# Altium footprint library Modules.PcbLib: 5 footprints
Each footprint in its own frame and in the unit in brackets; x right, y up, seen from the top. Pads: shape width x height; smd on the part's side, far side on the other; paste and mask are expansions set on the pad; w line width, h text height; cw(c..) or ccw(c..) is an arc to the next point about the centre after c.
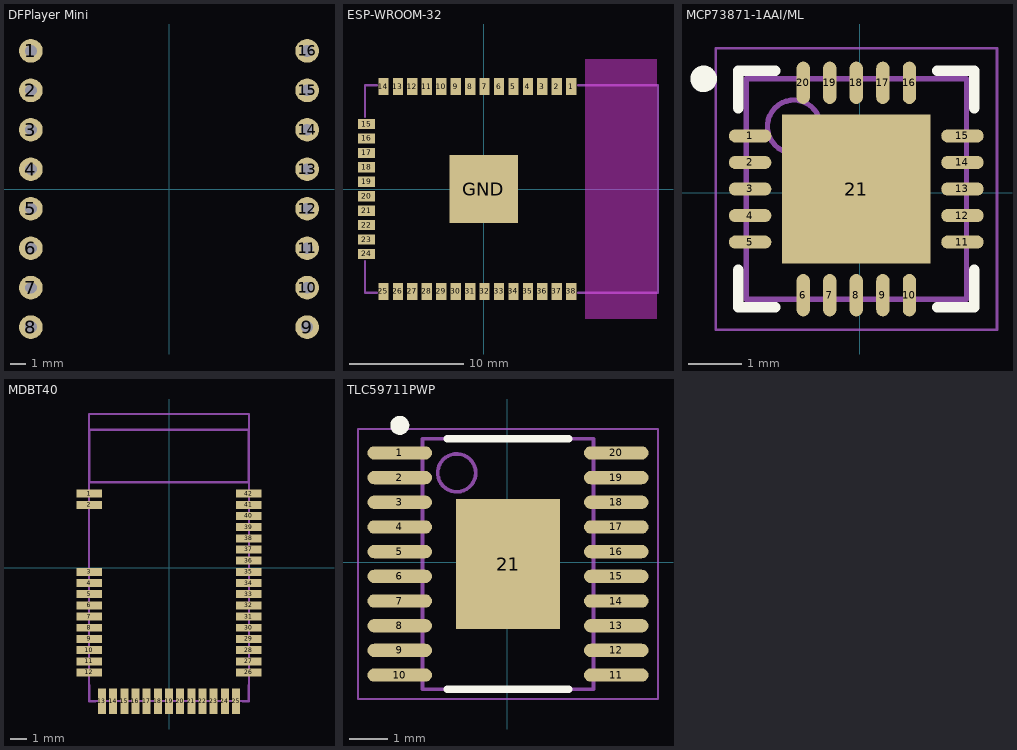
[diagram p0: the footprints below, top view; thin cyan lines are the x and y axes]

## DFPlayer Mini [mil]
pads (16):
  round 60 hole 30: 1(-350,350) 2(-350,250) 3(-350,150) 4(-350,50) 5(-350,-50) 6(-350,-150) 7(-350,-250) 8(-350,-350) 9(350,-350) 10(350,-250) 11(350,-150) 12(350,-50) 13(350,50) 14(350,150) 15(350,250) 16(350,350)
3D body: height 234.25, standoff -212.6, extent -401.96,-507.08 401.98,406.7

## ESP-WROOM-32 [mm]
pads (39):
  rect 0.9x1.5 smd: 1(7.7,9) 2(6.43,9) 3(5.16,9) 4(3.89,9) 5(2.62,9) 6(1.35,9) 7(0.08,9) 8(-1.19,9) 9(-2.46,9) 10(-3.73,9) 11(-5,9) 12(-6.27,9) 13(-7.54,9) 14(-8.81,9) 25(-8.81,-9) 26(-7.54,-9) 27(-6.27,-9) 28(-5,-9) 29(-3.73,-9) 30(-2.46,-9) 31(-1.19,-9) 32(0.08,-9) 33(1.35,-9) 34(2.62,-9) 35(3.89,-9) 36(5.16,-9) 37(6.43,-9) 38(7.7,-9)
  rect 1.5x0.9 smd: 15(-10.3,5.715) 16(-10.3,4.445) 17(-10.3,3.175) 18(-10.3,1.905) 19(-10.3,0.635) 20(-10.3,-0.635) 21(-10.3,-1.905) 22(-10.3,-3.175) 23(-10.3,-4.445) 24(-10.3,-5.715)
  rect 6x6 smd: GND(0,0)
Keep-Out Layer:
  rectangle: 8.89,-11.43 15.24,11.43
Mechanical 22:
  lines w0.203: -10.427,-6.35 -10.427,-9.127 -9.4,-9.127 ; -10.427,6.35 -10.427,9.127 -9.4,9.127 ; 8.311,-9.127 15.327,-9.127 15.327,9.127 8.311,9.127
3D body: height 1, standoff 0, extent -10.16,-8.89 15.24,8.89
3D body: height 3, standoff 0, extent -8.89,-7.62 7.874,7.62

## MCP73871-1AAI/ML [mm]
pads (21):
  oval 0.8x0.25 smd: 1(-2.064,1.072) 2(-2.064,0.572) 3(-2.064,0.072) 4(-2.064,-0.428) 5(-2.064,-0.928) 11(1.936,-0.928) 12(1.936,-0.428) 13(1.936,0.072) 14(1.936,0.572) 15(1.936,1.072)
  oval 0.25x0.8 smd: 6(-1.064,-1.928) 7(-0.564,-1.928) 8(-0.064,-1.928) 9(0.436,-1.928) 10(0.936,-1.928) 16(0.936,2.072) 17(0.436,2.072) 18(-0.064,2.072) 19(-0.564,2.072) 20(-1.064,2.072)
  rect 2.8x2.8 smd: 21(-0.064,0.072)
Top Overlay:
  circle w0.25: c-2.939,2.147 r0.125
  lines w0.2: -2.289,-1.453 -2.289,-2.153 -1.589,-2.153 ; -2.289,1.597 -2.289,2.297 -1.589,2.297 ; 1.461,-2.153 2.161,-2.153 2.161,-1.453 ; 1.461,2.297 2.161,2.297 2.161,1.597
3D Top:
  circle w0.1: c-1.239,1.247 r0.5
  lines w0.1: -2.139,-2.003 2.011,-2.003 2.011,2.147 -2.139,2.147 -2.139,-2.003
Courtyard Top:
  lines w0.05: -2.714,-2.578 2.586,-2.578 2.586,2.722 -2.714,2.722 -2.714,-2.578
  lines w0.1: -0.564,0.072 0.436,0.072 ; -0.064,-0.428 -0.064,0.572
3D body: height 1, standoff 0, extent -2.139,-2.003 2.011,2.147

## MDBT40 [mm] "MDBT40"
pads (42):
  rect 1.6x0.5 smd: 1(-5,4.635) 2(-5,3.935) 3(-5,-0.265) 4(-5,-0.965) 5(-5,-1.665) 6(-5,-2.365) 7(-5,-3.065) 8(-5,-3.765) 9(-5,-4.465) 10(-5,-5.165) 11(-5,-5.865) 12(-5,-6.565) 26(5,-6.565) 27(5,-5.865) 28(5,-5.165) 29(5,-4.465) 30(5,-3.765) 31(5,-3.065) 32(5,-2.365) 33(5,-1.665) 34(5,-0.965) 35(5,-0.265) 36(5,0.435) 37(5,1.135) 38(5,1.835) 39(5,2.535) 40(5,3.235) 41(5,3.935) 42(5,4.635)
  rect 0.5x1.6 smd: 13(-4.2,-8.365) 14(-3.5,-8.365) 15(-2.8,-8.365) 16(-2.1,-8.365) 17(-1.4,-8.365) 18(-0.7,-8.365) 19(0,-8.365) 20(0.7,-8.365) 21(1.4,-8.365) 22(2.1,-8.365) 23(2.8,-8.365) 24(3.5,-8.365) 25(4.2,-8.365)
Assembly Top:
  lines w0.127: -5,5.335 5,5.335 ; -5,5.335 -5,9.618 -3.483,9.618 -3.449,9.618 3.517,9.618 5,9.618 5,5.335 ; -5,5.335 -5,-8.365 5,-8.365 5,5.335
Mechanical 22:
  lines w0.15: -5,-7.365 -5,-8.365 -4.6,-8.365 ; 4.6,-8.365 5,-8.365 5,-7.365 ; -5,5.335 5,5.335 5,8.635 -5,8.635 -5,5.335
3D body: height 3.2, standoff 0, extent -5,-8.382 5,9.618

## TLC59711PWP [mm] "12-channel LED driver"
pads (21):
  oval 1.7x0.35 smd: 1(-2.83,2.885) 2(-2.83,2.235) 3(-2.83,1.585) 4(-2.83,0.935) 5(-2.83,0.285) 6(-2.83,-0.365) 7(-2.83,-1.015) 8(-2.83,-1.665) 9(-2.83,-2.315) 10(-2.83,-2.965) 11(2.87,-2.965) 12(2.87,-2.315) 13(2.87,-1.665) 14(2.87,-1.015) 15(2.87,-0.365) 16(2.87,0.285) 17(2.87,0.935) 18(2.87,1.585) 19(2.87,2.235) 20(2.87,2.885)
  rect 2.75x3.43 smd: 21(0.02,-0.04)
Top Overlay:
  circle w0.25: c-2.83,3.61 r0.125
  lines w0.2: -1.58,-3.34 1.62,-3.34 ; -1.58,3.26 1.62,3.26
3D Top:
  circle w0.1: c-1.33,2.36 r0.5
  lines w0.1: -2.23,-3.34 2.27,-3.34 2.27,3.26 -2.23,3.26 -2.23,-3.34
Courtyard Top:
  lines w0.05: -3.93,-3.59 3.97,-3.59 3.97,3.51 -3.93,3.51 -3.93,-3.59
  lines w0.1: -0.48,-0.04 0.52,-0.04 ; 0.02,-0.54 0.02,0.46
3D body: height 1.2, standoff 0.05, extent -2.23,-3.34 2.27,3.26